# Altium footprint library SparkFun-Connectors.PCBLIB: 43 footprints (part 2 of 3)
Each footprint in its own frame and in the unit in brackets; x right, y up, seen from the top. Pads: shape width x height; smd on the part's side, far side on the other; paste and mask are expansions set on the pad; w line width, h text height; cw(c..) or ccw(c..) is an arc to the next point about the centre after c.
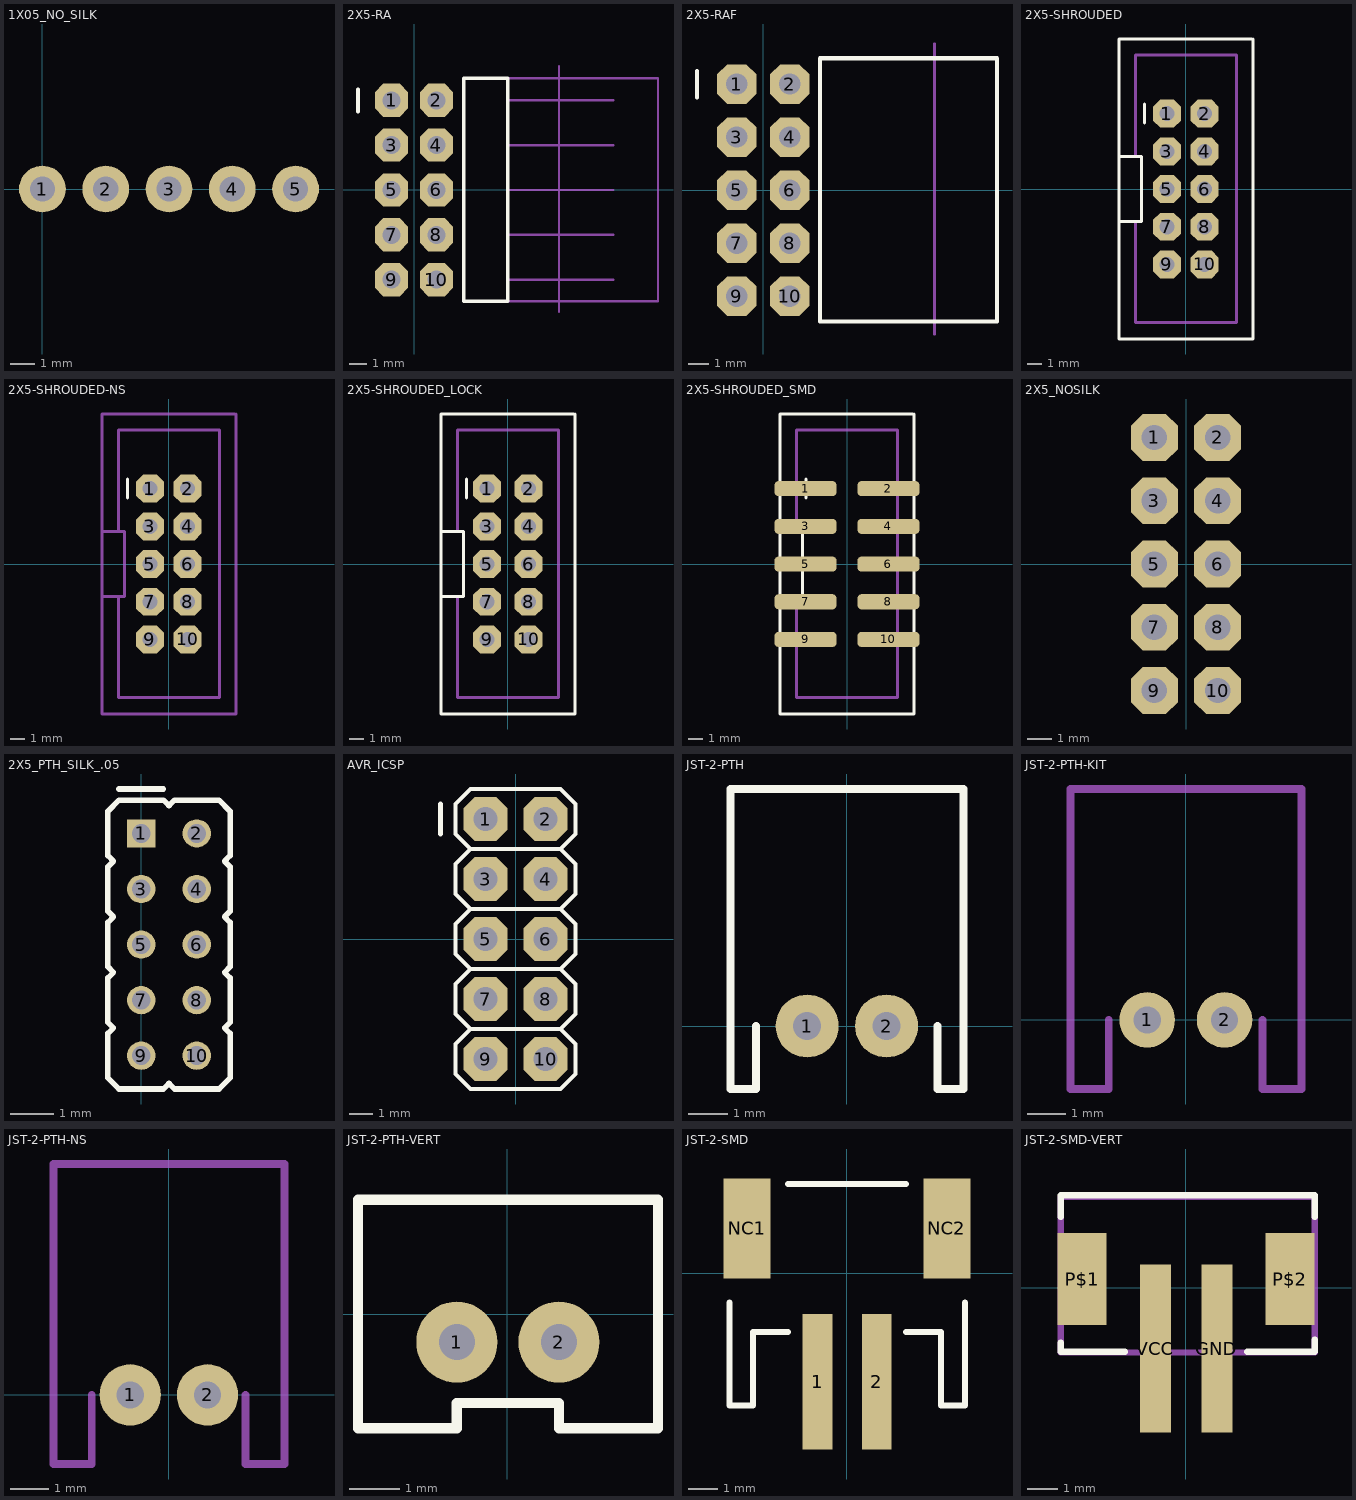
[diagram p1: the footprints below, top view; thin cyan lines are the x and y axes]

## 1X05_NO_SILK [mil]
pads (5):
  round 74 hole 40: 1(0,0) 2(100,0) 3(200,0) 4(300,0) 5(400,0)
Mechanical 16:
  rectangle: 390,-10 410,10
  rectangle: 290,-10 310,10
  rectangle: 190,-10 210,10
  rectangle: 90,-10 110,10
  rectangle: -10,-10 10,10

## 2X5-RA [mil]
pads (10):
  oct 74x74 hole 40: 1(-50,200) 2(50,200) 3(-50,100) 4(50,100) 5(-50,0) 6(50,0) 7(-50,-100) 8(50,-100) 9(-50,-200) 10(50,-200)
Top Overlay:
  lines w8: -125,175 -125,225 ; 111,-248.03 209,-248.03 209,249 111,249 111,-248.03
Mechanical 16:
  region: -60,210 -60,190 -40,190 -40,210
  region: 40,210 40,190 60,190 60,210
  region: 40,110 40,90 60,90 60,110
  region: -60,110 -60,90 -40,90 -40,110
  region: 40,10 40,-10 60,-10 60,10
  region: -60,10 -60,-10 -40,-10 -40,10
  region: 40,-90 40,-110 60,-110 60,-90
  region: -60,-90 -60,-110 -40,-110 -40,-90
  region: 40,-190 40,-210 60,-210 60,-190
  region: -60,-190 -60,-210 -40,-210 -40,-190
  region: -60,-90 -60,-110 -40,-110 -40,-90
  region: 40,-90 40,-110 60,-110 60,-90
  lines w5: 209,-248.03 544,-248.03 544,249 209,249 ; 209,-200 445,-200 ; 209,-100 445,-100 ; 209,0 445,0 ; 209,100 445,100 ; 209,200 445,200 ; 323,-271.65 323,276

## 2X5-RAF [mil]
pads (10):
  oct 74x74 hole 40: 1(-50,200) 2(50,200) 3(-50,100) 4(50,100) 5(-50,0) 6(50,0) 7(-50,-100) 8(50,-100) 9(-50,-200) 10(50,-200)
Top Overlay:
  lines w8: -125,175 -125,225 ; 107,-248.03 441,-248.03 441,249 107,249 107,-248.03
Mechanical 16:
  region: -60,210 -60,190 -40,190 -40,210
  region: 40,210 40,190 60,190 60,210
  region: 40,110 40,90 60,90 60,110
  region: -60,110 -60,90 -40,90 -40,110
  region: 40,10 40,-10 60,-10 60,10
  region: -60,10 -60,-10 -40,-10 -40,10
  region: 40,-90 40,-110 60,-110 60,-90
  region: -60,-90 -60,-110 -40,-110 -40,-90
  region: 40,-190 40,-210 60,-210 60,-190
  region: -60,-190 -60,-210 -40,-210 -40,-190
  region: -60,-90 -60,-110 -40,-110 -40,-90
  region: 40,-90 40,-110 60,-110 60,-90
  lines w5: 323,-271.65 323,276

## 2X5-SHROUDED [mil]
pads (10):
  oct 74x74 hole 40: 1(-50,200) 2(50,200) 3(-50,100) 4(50,100) 5(-50,0) 6(50,0) 7(-50,-100) 8(50,-100) 9(-50,-200) 10(50,-200)
Top Overlay:
  lines w8: -109.25,175 -109.25,225 ; 174,398 -177.17,398 -177.17,87 ; 178,398 178,-397.64 -177.17,-397.64 -177.17,-86.61 ; -177.17,-86.61 -177.17,87 ; -177.17,-86.61 -118.11,-86.61 -118.11,87 -177.17,87
Mechanical 16:
  rectangle: -60,190 -40,210
  rectangle: 40,190 60,210
  rectangle: 40,90 60,110
  rectangle: -60,90 -40,110
  rectangle: 40,-10 60,10
  rectangle: -60,-10 -40,10
  rectangle: 40,-110 60,-90
  rectangle: -60,-110 -40,-90
  rectangle: 40,-210 60,-190
  rectangle: -60,-210 -40,-190
  rectangle: -60,-110 -40,-90
  rectangle: 40,-110 60,-90
  lines w8: -133.86,-86.61 -133.86,-354.33 134,-354.33 134,355 -133.86,355 -133.86,87

## 2X5-SHROUDED-NS [mil]
pads (10):
  oct 74x74 hole 40: 1(-50,200) 2(50,200) 3(-50,100) 4(50,100) 5(-50,0) 6(50,0) 7(-50,-100) 8(50,-100) 9(-50,-200) 10(50,-200)
Top Overlay:
  lines w8: -109.25,175 -109.25,225
Mechanical 16:
  rectangle: -60,190 -40,210
  rectangle: 40,190 60,210
  rectangle: 40,90 60,110
  rectangle: -60,90 -40,110
  rectangle: 40,-10 60,10
  rectangle: -60,-10 -40,10
  rectangle: 40,-110 60,-90
  rectangle: -60,-110 -40,-90
  rectangle: 40,-210 60,-190
  rectangle: -60,-210 -40,-190
  rectangle: -60,-110 -40,-90
  rectangle: 40,-110 60,-90
  lines w8: 174,398 -177.17,398 -177.17,87 ; 178,398 178,-397.64 -177.17,-397.64 -177.17,-86.61 ; -177.17,-86.61 -177.17,87 ; -177.17,-86.61 -133.86,-86.61 ; -177.17,87 -133.86,87 ; -133.86,-86.61 -118.11,-86.61 -118.11,87 -133.86,87 ; -133.86,-86.61 -133.86,-354.33 134,-354.33 134,355 -133.86,355 -133.86,87

## 2X5-SHROUDED_LOCK [mil]
pads (10):
  oct 74x74 hole 40: 1(-55,200) 2(55,200) 3(-55,100) 4(55,100) 5(-55,0) 6(55,0) 7(-55,-100) 8(55,-100) 9(-55,-200) 10(55,-200)
Top Overlay:
  lines w8: -109.25,175 -109.25,225 ; 174,398 -177.17,398 -177.17,87 ; 178,398 178,-397.64 -177.17,-397.64 -177.17,-86.61 ; -177.17,-86.61 -177.17,87 ; -177.17,-86.61 -118.11,-86.61 -118.11,87 -177.17,87
Mechanical 16:
  region: -60,210 -60,190 -40,190 -40,210
  region: 40,210 40,190 60,190 60,210
  region: 40,110 40,90 60,90 60,110
  region: -60,110 -60,90 -40,90 -40,110
  region: 40,10 40,-10 60,-10 60,10
  region: -60,10 -60,-10 -40,-10 -40,10
  region: 40,-90 40,-110 60,-110 60,-90
  region: -60,-90 -60,-110 -40,-110 -40,-90
  region: 40,-190 40,-210 60,-210 60,-190
  region: -60,-190 -60,-210 -40,-210 -40,-190
  region: -60,-90 -60,-110 -40,-110 -40,-90
  region: 40,-90 40,-110 60,-110 60,-90
  lines w8: -133.86,-86.61 -133.86,-354.33 134,-354.33 134,355 -133.86,355 -133.86,87

## 2X5-SHROUDED_SMD [mil]
pads (10):
  rrect50% 164x40 smd: 1(-110,200) 2(110,200) 3(-110,100) 4(110,100) 5(-110,0) 6(110,0) 7(-110,-100) 8(110,-100) 9(-110,-200) 10(110,-200)
Top Overlay:
  lines w8: -109.25,175 -109.25,225 ; 174,398 -177.17,398 -177.17,87 ; 178,398 178,-397.64 -177.17,-397.64 -177.17,-86.61 ; -177.17,-86.61 -177.17,87 ; -177.17,-86.61 -118.11,-86.61 -118.11,87 -177.17,87
Mechanical 16:
  rectangle: -60,190 -40,210
  rectangle: 40,190 60,210
  rectangle: 40,90 60,110
  rectangle: -60,90 -40,110
  rectangle: 40,-10 60,10
  rectangle: -60,-10 -40,10
  rectangle: 40,-110 60,-90
  rectangle: -60,-110 -40,-90
  rectangle: 40,-210 60,-190
  rectangle: -60,-210 -40,-190
  rectangle: -60,-110 -40,-90
  rectangle: 40,-110 60,-90
  lines w8: -133.86,-86.61 -133.86,-354.33 134,-354.33 134,355 -133.86,355 -133.86,87

## 2X5_NOSILK [mil]
pads (10):
  oct 74x74 hole 40: 1(-50,200) 2(50,200) 3(-50,100) 4(50,100) 5(-50,0) 6(50,0) 7(-50,-100) 8(50,-100) 9(-50,-200) 10(50,-200)
Mechanical 16:
  rectangle: -60,190 -40,210
  rectangle: 40,190 60,210
  rectangle: 40,90 60,110
  rectangle: -60,90 -40,110
  rectangle: -60,-10 -40,10
  rectangle: 40,-210 60,-190
  rectangle: -60,-210 -40,-190
  rectangle: -60,-110 -40,-90
  rectangle: 40,-110 60,-90
  rectangle: 40,-10 60,10

## 2X5_PTH_SILK_.05 [mil]
pads (10):
  rect 25.5x25.5 hole 17: 1(0,250)
  round 25.5 hole 17: 2(50,250) 3(0,200) 4(50,200) 5(0,150) 6(50,150) 7(0,100) 8(50,100) 9(0,50) 10(50,50)
Top Overlay:
  lines w5: -20,290 20,290 ; -30,30 -20,20 20,20 25,25 30,20 70,20 80,30 80,70 75,75 80,80 80,120 75,125 80,130 80,170 75,175 80,180 80,220 75,225 80,230 80,270 70,280 30,280 25,275 20,280 -20,280 -30,270 -30,230 -25,225 -30,220 -30,180 -25,175 -30,170 -30,130 -25,125 -30,120 -30,80 -25,75 -30,70 -30,30

## AVR_ICSP [mil]
pads (10):
  oct 74x74 hole 40: 1(-50,200) 2(50,200) 3(-50,100) 4(50,100) 5(-50,0) 6(50,0) 7(-50,-100) 8(50,-100) 9(-50,-200) 10(50,-200)
Top Overlay:
  rectangle: -60,-10 -40,10
  lines w6: -75,-150 -100,-125 -100,-75 -75,-50 ; -75,-150 75,-150 ; -75,-150 -100,-175 -100,-225 -75,-250 75,-250 100,-225 100,-175 75,-150 ; -75,-50 -100,-25 -100,25 -75,50 ; -75,-50 75,-50 ; -75,50 -100,75 -100,125 -75,150 ; -75,50 75,50 ; -75,150 -100,175 -100,225 -75,250 75,250 100,225 100,175 75,150 ; -75,150 75,150 ; 75,-150 100,-125 100,-75 75,-50 ; 75,-50 100,-25 100,25 75,50 ; 75,50 100,75 100,125 75,150
  lines w8: -125,175 -125,225
Mechanical 16:
  rectangle: -60,190 -40,210
  rectangle: 40,190 60,210
  rectangle: 40,90 60,110
  rectangle: -60,90 -40,110
  rectangle: 40,-10 60,10
  rectangle: 40,-210 60,-190
  rectangle: -60,-210 -40,-190
  rectangle: -60,-110 -40,-90
  rectangle: 40,-110 60,-90

## JST-2-PTH [mil]
pads (2):
  round 63 hole 28: 1(-39.37,0) 2(40,0)
Top Overlay:
  lines w8: -90.55,0 -90.55,-62.99 -116.14,-62.99 -116.14,237 117,237 117,-62.99 91,-62.99 91,0
Mechanical 16:
  text "+" at 24,28 h77.5
  text "-" at -55.12,28 h77.5

## JST-2-PTH-KIT [mil]
pads (2):
  round 57 hole 28: 1(-39.37,0) 2(40,0)
Top Solder:
  region: 0,0 10,0 10,10 0,10
  region: 0,0 10,0 10,10 0,10
Bottom Solder:
  region: 0,0 10,0 10,10 0,10
  region: 0,0 10,0 10,10 0,10
Mechanical 16:
  lines w8: -78.74,0 -78.74,-70.87 -118.11,-70.87 -118.11,237 119,237 119,-70.87 79,-70.87 79,0
  text "+" at 24,28 h77.5
  text "-" at -55.12,28 h77.5

## JST-2-PTH-NS [mil]
pads (2):
  round 63 hole 28: 1(-39.37,0) 2(40,0)
Mechanical 16:
  lines w8: -78.74,0 -78.74,-70.87 -118.11,-70.87 -118.11,237 119,237 119,-70.87 79,-70.87 79,0
  text "+" at 24,28 h77.5
  text "-" at -55.12,28 h77.5

## JST-2-PTH-VERT [mil]
pads (2):
  round 63 hole 28: 1(-39.37,-21.65) 2(40,-21.65)
Top Overlay:
  lines w8: -116.14,-88.58 -116.14,89 117,89 117,-88.58 40,-88.58 40,-68.9 -39.37,-68.9 -39.37,-88.58 -116.14,-88.58
Mechanical 16:
  text "+" at 25,30 h77.5
  text "-" at -54.49,30 h77.5

## JST-2-SMD [mil]
pads (4):
  rect 40x182 smd: 1(-39.37,-145.67) 2(40,-145.67)
  rect 63x134 smd: NC1(-133.86,60) NC2(134,60)
Top Overlay:
  lines w8: -157.48,-39.37 -157.48,-177.17 -125.98,-177.17 -125.98,-78.74 -78.74,-78.74 ; -78.74,119 79,119 ; 79,-78.74 126,-78.74 126,-177.17 158,-177.17 158,-39.37

## JST-2-SMD-VERT [mil]
pads (4):
  rect 40x217 smd: GND(40,-78.74) VCC(-39.37,-78.74)
  rect 63x119 smd: P$1(-133.86,11) P$2(134,11)
Top Overlay:
  lines w8: -161.42,-70.87 -161.42,-82.68 -78.74,-82.68 ; -161.42,91 -161.42,119 166,119 166,91 ; 79,-82.68 166,-82.68 166,-66.93
Mechanical 16:
  lines w8: -161.42,-83.86 166,-83.86 166,117 -161.42,117 -161.42,-83.86